# Altium integrated library Coilcraft.IntLib: 8 symbols
Pins are listed as number, name and electrical type; pins without a type are passive.

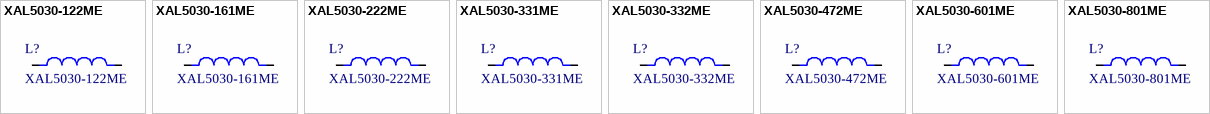
[diagram p0: symbols XAL5030-122ME to XAL5030-801ME]

## XAL5030-122ME
designator L?
1.2µH Isat 12.5A DCR 12.4mΩ Irms 7.9A
footprint XAL5030-122ME
pins: 1, 2

## XAL5030-161ME
designator L?
0.16µH Isat 31.0A DCR 2.36mΩ Irms 14.2A
footprint XAL5030-161ME
pins: 1, 2

## XAL5030-222ME
designator L?
2.2µH Isat 9.2A DCR 14.5mΩ Irms 7.2A
footprint XAL5030-222ME
pins: 1, 2

## XAL5030-331ME
designator L?
0.33µH Isat 26.0A DCR 3.52mΩ Irms 13.8A
footprint XAL5030-331ME
pins: 1, 2

## XAL5030-332ME
designator L?
3.3µH Isat 8.7A DCR 23.3mΩ Irms 5.9A
footprint XAL5030-332ME
pins: 1, 2

## XAL5030-472ME
designator L?
4.7µH Isat 6.7A DCR 40.0mΩ Irms 4.3A
footprint XAL5030-472ME
pins: 1, 2

## XAL5030-601ME
designator L?
0.60µH Isat 19.8A DCR 4.52mΩ Irms 13.6A
footprint XAL5030-601ME
pins: 1, 2

## XAL5030-801ME
designator L?
0.80µH Isat 18.5A DCR 5.65mΩ Irms 10.0A
footprint XAL5030-801ME
pins: 1, 2